# Altium integrated library RF1-1A-DC-2-R-1.IntLib: 1 symbol
Pins are listed as number, name and electrical type; pins without a type are passive.

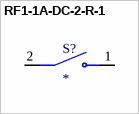
[diagram p0: symbol RF1-1A-DC-2-R-1]

## RF1-1A-DC-2-R-1
designator S?
Switch, Mini Rocker, 2P SPST OFF-ON, Red w/ Print, VDC | Switch Components RF1-1A-DC-2-R-1; SnapEDA_Link: https://www.snapeda.com/parts/RF1-1A-DC-2-R-1/Switch+Components/view-part/?ref=snap; Package: None; Value: *; MF: Switch Components; MP: RF1-1A-DC-2-R-1; Check_prices: https://www.snapeda.com/parts/RF1-1A-DC-2-R-1/Switch+Components/view-part/?ref=eda
footprint SW_RF1-1A-DC-2-R-1
pins: 1, 2